# EAGLE library part STM32F030K6T6 (library STM32F030K6T6)
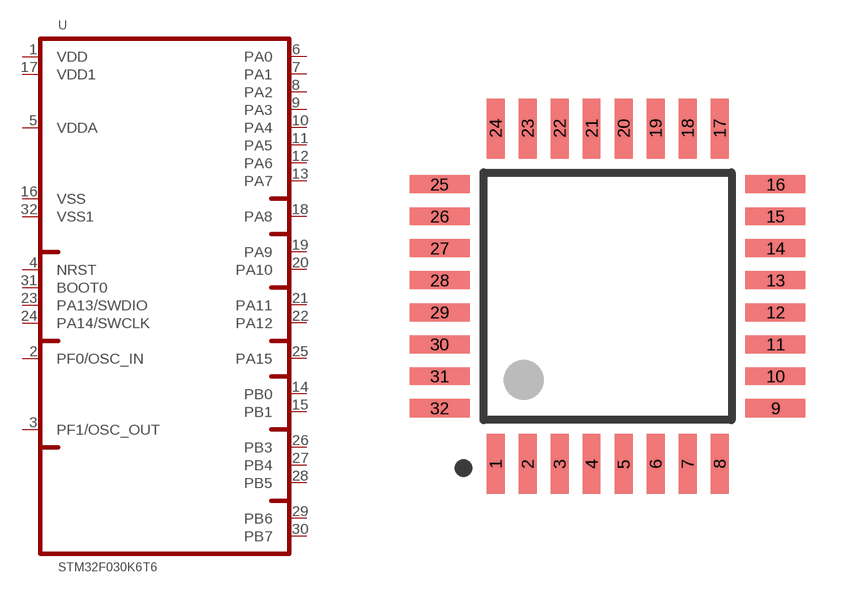
[diagram p0: symbol with the pads of LQFP-32; footprint LQFP-32]

Designator prefix -

## STM32F030K6T6  [LQFP-32]
1  VDD
2  PF0/OSC_IN
3  PF1/OSC_OUT
4  NRST
5  VDDA
6  PA0
7  PA1
8  PA2
9  PA3
10  PA4
11  PA5
12  PA6
13  PA7
14  PB0
15  PB1
16  VSS
17  VDD1
18  PA8
19  PA9
20  PA10
21  PA11
22  PA12
23  PA13/SWDIO
24  PA14/SWCLK
25  PA15
26  PB3
27  PB4
28  PB5
29  PB6
30  PB7
31  BOOT0
32  VSS1

## Footprint LQFP-32 (pad centres in mm)
Quad FLat Pack RFMicro Device TQFP / LQFP-32 see IPC-SQR.LBR SQFP 5x5-32
smd 0.45 x 1.5: 1 2.28,0.88; 2 3.08,0.88; 3 3.88,0.88; 4 4.68,0.88; 5 5.48,0.88; 6 6.28,0.88; 7 7.08,0.88; 8 7.88,0.88; 17 7.88,9.28; 18 7.08,9.28; 19 6.28,9.28; 20 5.48,9.28; 21 4.68,9.28; 22 3.88,9.28; 23 3.08,9.28; 24 2.28,9.28
smd 1.5 x 0.45: 9 9.28,2.28; 10 9.28,3.08; 11 9.28,3.88; 12 9.28,4.68; 13 9.28,5.48; 14 9.28,6.28; 15 9.28,7.08; 16 9.28,7.88; 25 0.88,7.88; 26 0.88,7.08; 27 0.88,6.28; 28 0.88,5.48; 29 0.88,4.68; 30 0.88,3.88; 31 0.88,3.08; 32 0.88,2.28